# Altium schematic symbol library Schlib.SchLib: 2 symbols
Pins are listed as number, name and electrical type; pins without a type are passive.

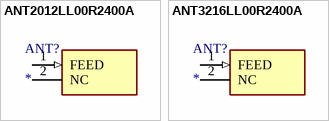
[diagram p0: symbols ANT2012LL00R2400A to ANT3216LL00R2400A]

## ANT2012LL00R2400A
designator ANT?
Antenna; Manufacturer_Name: YAGEO (PHYCOMP); Manufacturer_Part_Number: ANT2012LL00R2400A; Datasheet Link: http://www.yageo.com/NewPortal/_en/search/productDocs.jsp?YageoPartNumber=ANT2012LL00R2400A; Height: 1.2mm
footprint ANTC2012X120N
pins: 1 FEED (in), 2 NC

## ANT3216LL00R2400A
designator ANT?
Antenna; Manufacturer_Name: YAGEO (PHYCOMP); Manufacturer_Part_Number: ANT3216LL00R2400A; Height: 1.35mm
footprint ANTC3216X135N
pins: 1 FEED (in), 2 NC